# Altium footprint library QN9080.PcbLib: 13 footprints
Each footprint in its own frame and in the unit in brackets; x right, y up, seen from the top. Pads: shape width x height; smd on the part's side, far side on the other; paste and mask are expansions set on the pad; w line width, h text height; cw(c..) or ccw(c..) is an arc to the next point about the centre after c.
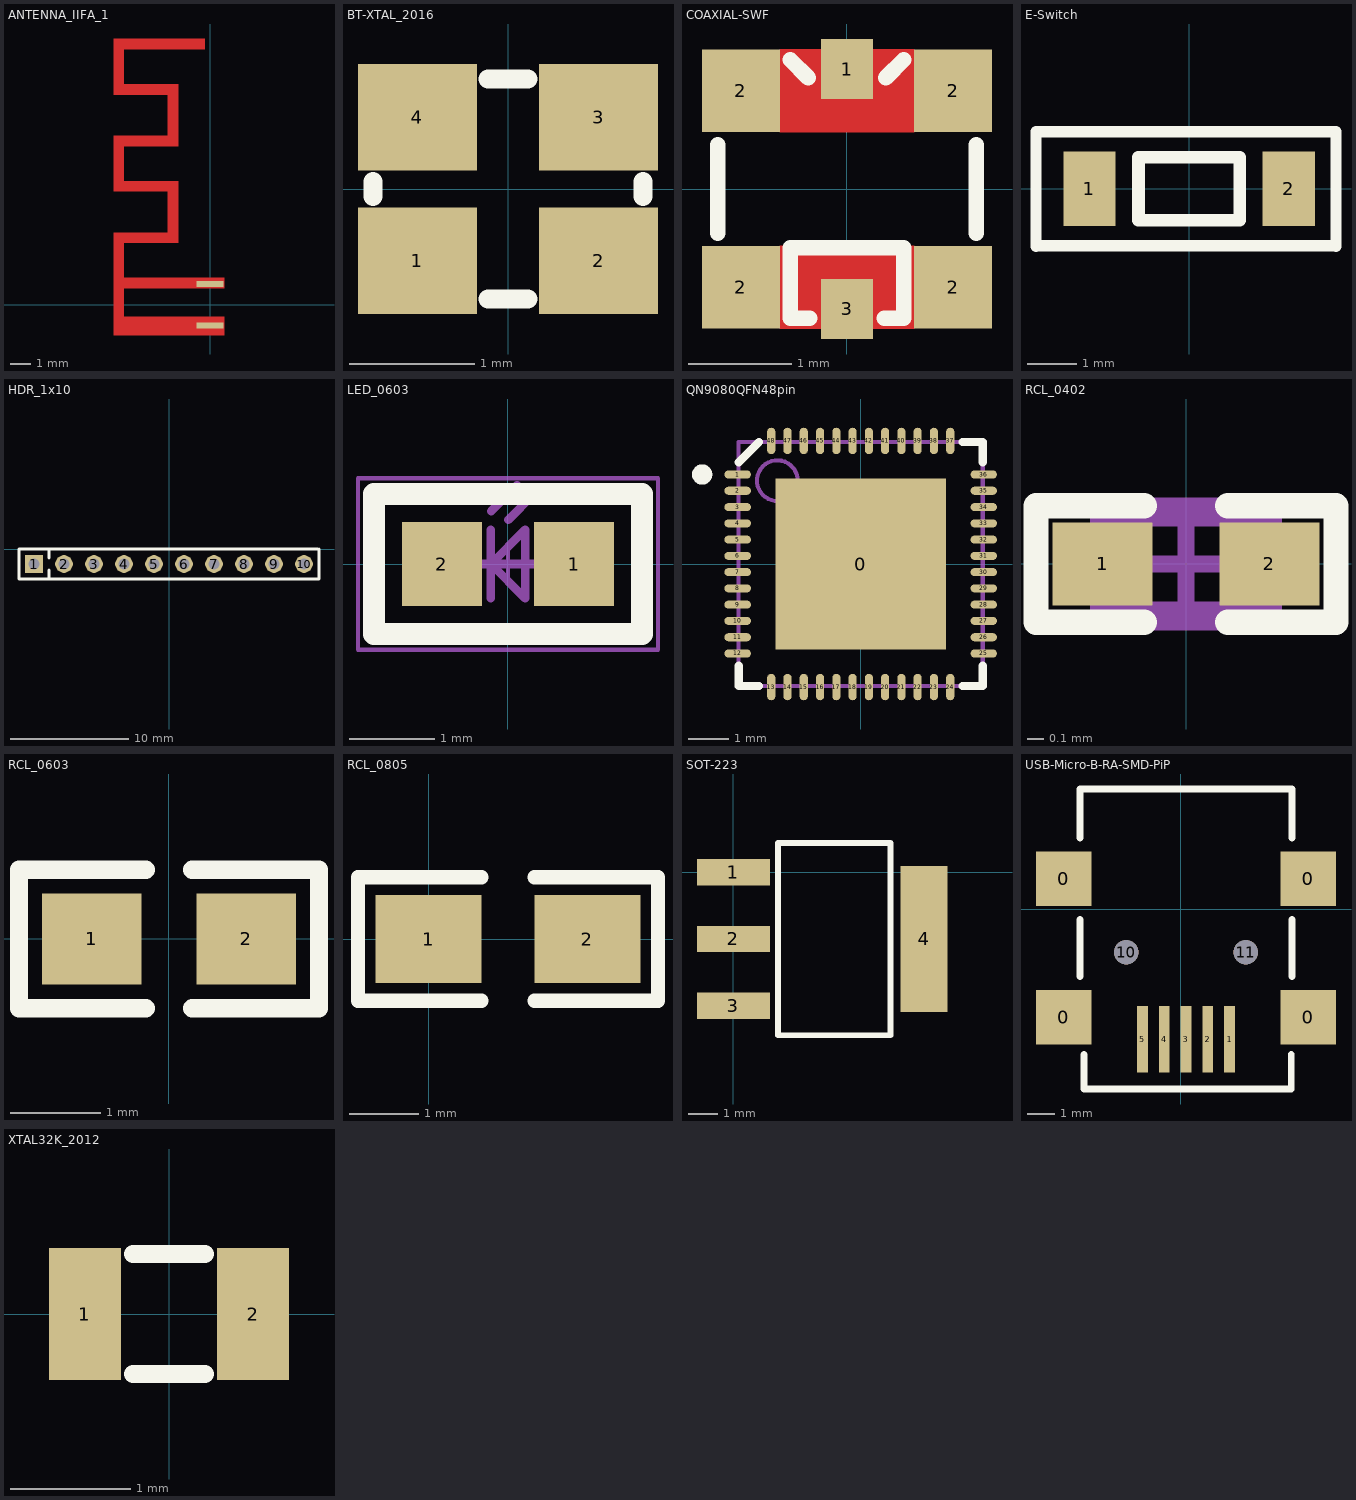
[diagram p0: the footprints below, top view; thin cyan lines are the x and y axes]

## ANTENNA_IIFA_1 [mm]
pads (2):
  rect 1.3x0.3 smd paste+0 mask-0.3: 1(0,1.01) 2(0,-1.01)
Top Layer:
  region: -4.69,8.21 -1.55,8.21 -1.55,7.71 -4.69,7.71
  region: -4.69,5.51 -4.19,5.51 -4.19,8.21 -4.69,8.21
  region: -2.05,3.01 -1.55,3.01 -1.55,6.01 -2.05,6.01
  region: -1.55,3.01 -4.69,3.01 -4.69,3.51 -1.55,3.51
  region: -2.05,7.71 -1.55,7.71 -1.55,10.71 -2.05,10.71
  region: -1.55,10.71 -4.69,10.71 -4.69,10.21 -1.55,10.21
  region: -4.69,10.21 -4.19,10.21 -4.19,12.91 -4.69,12.91
  region: -1.55,6.01 -4.69,6.01 -4.69,5.51 -1.55,5.51
  region: -4.69,-1.49 0.7,-1.49 0.7,-0.59 -4.69,-0.59
  region: -4.69,12.91 -0.25,12.91 -0.25,12.41 -4.69,12.41
  region: -4.69,0.81 0.7,0.81 0.7,1.31 -4.69,1.31
  region: -4.69,-1.49 -4.19,-1.49 -4.19,3.51 -4.69,3.51

## BT-XTAL_2016 [mm] "Crystal 2.0 x 1.6 mm"
height 0.5
pads (4):
  rect 0.95x0.85 smd: 1(-0.725,-0.575) 2(0.725,-0.575) 3(0.725,0.575) 4(-0.725,0.575)
Top Overlay:
  lines w0.152: -1.08,-0.06 -1.08,0.06 ; -0.16,-0.88 0.16,-0.88 ; -0.16,0.88 0.16,0.88 ; 1.08,-0.06 1.08,0.06
3D body: height 0.56, standoff 0, extent -1.05,-0.85 1.05,0.85
3D body: height 0.56, standoff 0.15, extent -0.7,-0.65 0.7,0.65

## COAXIAL-SWF [mm]
height 1.1
pads (6):
  rect 0.5x0.58 smd: 1(0,1.16) 3(0,-1.16)
  rect 0.75x0.8 smd: 2(-1.025,-0.95) 2(-1.025,0.95) 2(1.025,-0.95) 2(1.025,0.95)
Top Layer:
  pour cut-out: -0.65,0.55 0.65,0.55 0.65,1.35 -0.65,1.35
  pour cut-out: 0.65,-0.55 -0.65,-0.55 -0.65,-1.35 0.65,-1.35
Top Overlay:
  lines w0.15: -1.25,-0.43 -1.25,0.43 ; -0.55,1.25 -0.375,1.075 ; -0.36,-1.25 -0.55,-1.25 -0.55,-0.57 0.55,-0.57 0.55,-1.25 0.36,-1.25 ; 0.375,1.075 0.55,1.25 ; 1.25,-0.43 1.25,0.43

## E-Switch [mm]
pads (2):
  rect 1.05x1.5 smd: 1(-2,0) 2(2,0)
Top Overlay:
  lines w0.229: -3.073,-1.152 -3.073,1.143 2.946,1.143 2.946,-1.153 ; -3.048,-1.143 2.946,-1.143
  lines w0.254: -1.016,-0.635 1.016,-0.635 1.016,0.635 -1.016,0.635 -1.016,-0.635

## HDR_1x10 [mm] "Pin Header, 2.54mm through hole"
pads (10):
  rect 1.5x1.5 hole 0.9: 1(-11.43,-1.27)
  round 1.5 hole 0.9: 2(-8.89,-1.27) 3(-6.35,-1.27) 4(-3.81,-1.27) 5(-1.27,-1.27) 6(1.27,-1.27) 7(3.81,-1.27) 8(6.35,-1.27) 9(8.89,-1.27) 10(11.43,-1.27)
Top Overlay:
  lines w0.254: -12.446,0 12.573,0 ; -11.938,0 -12.7,0 -12.7,-2.54 12.7,-2.54 12.7,0 ; -10.922,0 -10.16,0 -10.16,-0.762 ; -10.16,-2.54 -10.16,-1.778

## LED_0603 [mm] "SMD Super Bright LED, GREEN"
pads (2):
  rect 0.93x0.98 smd: 1(0.77,0) 2(-0.77,0)
Top Overlay:
  lines w0.254: -1.562,-0.817 1.562,-0.817 1.562,0.817 -1.562,0.817 -1.562,-0.817
Mechanical 13:
  lines w0.1: -0.4,0 0.4,0 ; -0.2,-0.4 -0.2,0.4 ; -0.195,0.617 0.105,0.917 ; 0.005,0.517 0.305,0.817 ; -0.2,0 0.2,-0.4 0.2,0.4 -0.2,0
Mechanical 15:
  lines w0.05: -0.2,0 0.2,0 ; 0,-0.2 0,0.2 ; -1.75,-1 1.75,-1 1.75,1 -1.75,1 -1.75,-1
3D body: height 0.6, standoff 0, extent -0.8,-0.4 0.8,0.4

## QN9080QFN48pin [mm]
pads (49):
  rect 4.2x4.2 smd: 0(0,0)
  oval 0.65x0.2 smd: 1(-3.025,2.2) 2(-3.025,1.8) 3(-3.025,1.4) 4(-3.025,1) 5(-3.025,0.6) 6(-3.025,0.2) 7(-3.025,-0.2) 8(-3.025,-0.6) 9(-3.025,-1) 10(-3.025,-1.4) 11(-3.025,-1.8) 12(-3.025,-2.2) 25(3.025,-2.2) 26(3.025,-1.8) 27(3.025,-1.4) 28(3.025,-1) 29(3.025,-0.6) 30(3.025,-0.2) 31(3.025,0.2) 32(3.025,0.6) 33(3.025,1) 34(3.025,1.4) 35(3.025,1.8) 36(3.025,2.2)
  oval 0.2x0.65 smd: 13(-2.2,-3.025) 14(-1.8,-3.025) 15(-1.4,-3.025) 16(-1,-3.025) 17(-0.6,-3.025) 18(-0.2,-3.025) 19(0.2,-3.025) 20(0.6,-3.025) 21(1,-3.025) 22(1.4,-3.025) 23(1.8,-3.025) 24(2.2,-3.025) 37(2.2,3.025) 38(1.8,3.025) 39(1.4,3.025) 40(1,3.025) 41(0.6,3.025) 42(0.2,3.025) 43(-0.2,3.025) 44(-0.6,3.025) 45(-1,3.025) 46(-1.4,3.025) 47(-1.8,3.025) 48(-2.2,3.025)
Top Overlay:
  circle w0.25: c-3.9,2.2 r0.125
  lines w0.2: -3,-2.5 -3,-3 -2.5,-3 ; -3,2.5 -2.5,3 ; 2.5,-3 3,-3 3,-2.5 ; 2.5,3 3,3 3,2.5
Mechanical 13:
  circle w0.1: c-2.05,2.05 r0.5
  lines w0.1: -3,-3 3,-3 3,3 -3,3 -3,-3
Mechanical 15:
  lines w0.1: -0.5,0 0.5,0 ; 0,-0.5 0,0.5
3D body: height 0.9, standoff 0, extent -3,-3 3,3

## RCL_0402 [mm] "Chip Capacitor, 2-Leads, Body 1.0x0.5mm, IPC High Density"
height 0.4
pads (2):
  rect 0.6x0.5 smd: 1(-0.5,0) 2(0.5,0)
Top Overlay:
  lines w0.152: -0.25,-0.35 -0.9,-0.35 -0.9,0.35 -0.25,0.35 ; 0.25,-0.35 0.9,-0.35 0.9,0.35 0.25,0.35
Mechanical 13:
  lines w0.1: -0.525,-0.275 0.525,-0.275 0.525,0.275 -0.525,0.275 -0.525,-0.275
Mechanical 15:
  lines w0.1: -0.275,0 0.275,0 ; 0,-0.275 0,0.275 ; -0.9,-0.35 -0.9,0.35 0.9,0.35 0.9,-0.35 -0.9,-0.35
3D body: height 0.5, standoff -0.01, extent -0.508,-0.254 0.508,0.254

## RCL_0603 [mm]
pads (2):
  rect 1.1x1 smd: 1(-0.85,0) 2(0.85,0)
Top Overlay:
  lines w0.203: -0.254,-0.762 -1.651,-0.762 -1.651,0.762 -0.254,0.762 ; 0.254,-0.762 1.651,-0.762 1.651,0.762 0.254,0.762

## RCL_0805 [mil]
pads (2):
  rect 60x50 smd: 1(0,0) 2(90,0)
Top Overlay:
  lines w8: 30,-35 -40,-35 -40,35 30,35 ; 60,-35 130,-35 130,35 60,35

## SOT-223 [mm] "AMS1117"
pads (4):
  rect 2.5x0.9 smd: 1(0,0) 2(0,-2.29) 3(0,-4.58)
  rect 1.6x5 smd: 4(6.528,-2.29)
Top Overlay:
  lines w0.2: 1.524,-5.588 5.385,-5.588 ; 1.524,-5.58 1.524,1 5.385,1 5.385,-5.58

## USB-Micro-B-RA-SMD-PiP [mm] "Micro USB B SMT"
pads (11):
  rect 2.032x2 smd: 0(-4.306,-3.971) 0(-4.306,1.129) 0(4.694,-3.971) 0(4.694,1.129)
  rect 0.4x2.454 smd: 1(1.794,-4.771) 2(0.994,-4.771) 3(0.194,-4.771) 4(-0.606,-4.771) 5(-1.406,-4.771)
  round 0.9 hole 0.9: 10(-2.006,-1.571) 11(2.394,-1.571)
Top Overlay:
  lines w0.25: -3.706,-2.471 -3.706,-0.371 ; -3.706,2.629 -3.706,4.429 4.094,4.429 4.094,2.629 ; -3.556,-5.334 -3.556,-6.604 4.064,-6.604 4.064,-5.334 ; 4.094,-2.471 4.094,-0.371

## XTAL32K_2012 [mm] "XTAL SMD 2.0 x 1.2 mm"
height 0.8
pads (2):
  rect 0.6x1.1 smd: 1(-0.7,0) 2(0.7,0)
Top Overlay:
  lines w0.15: -0.3,-0.5 0.3,-0.5 ; -0.3,0.5 0.3,0.5